# Altium footprint library CONN-TH_XT30PW-M.PcbLib: 1 footprints
Each footprint in its own frame and in the unit in brackets; x right, y up, seen from the top. Pads: shape width x height; smd on the part's side, far side on the other; paste and mask are expansions set on the pad; w line width, h text height; cw(c..) or ccw(c..) is an arc to the next point about the centre after c.
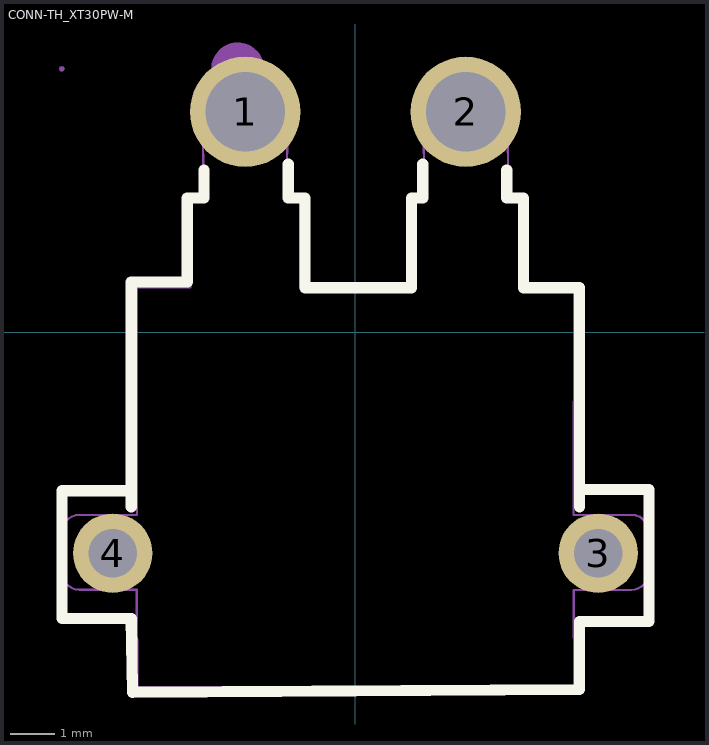
[diagram p0: the footprint, top view; thin cyan lines are the x and y axes]

## CONN-TH_XT30PW-M [mm]
pads (4):
  round 2.5 / inner round 1.524 / far side round 1.524 hole 1.8: 1(-2.5,5) 2(2.5,5)
  round 1.8 / inner round 1.524 / far side round 1.524 hole 1.1: 3(5.5,-5) 4(-5.5,-5)
Top Overlay:
  lines w0.254: -5.08,-3.95 -5.08,0.047 -5.08,1.143 -3.81,1.143 -3.81,3.048 -3.429,3.048 -3.429,3.683 ; -5.08,-3.585 -6.65,-3.585 -6.65,-6.48 -5.08,-6.48 -5.05,-8.15 5.08,-8.091 5.08,-6.549 ; -1.524,3.81 -1.524,3.048 -1.143,3.048 -1.143,1.016 1.27,1.016 1.27,3.048 1.524,3.048 1.524,3.81 ; 3.429,3.683 3.429,3.048 3.81,3.048 3.81,1.016 5.08,1.016 5.08,0.047 5.08,-3.95 ; 5.08,-6.55 6.65,-6.55 6.65,-3.559 5.08,-3.559
Mechanical 6:
  circle w0.6: c-2.667,5.969 r0.3
Mechanical 15:
  drawing of 94 lines, arcs and shapes, not listed